# Altium footprint library PanelDriver.PcbLib: 27 footprints (part 2 of 2)
Each footprint in its own frame and in the unit in brackets; x right, y up, seen from the top. Pads: shape width x height; smd on the part's side, far side on the other; paste and mask are expansions set on the pad; w line width, h text height; cw(c..) or ccw(c..) is an arc to the next point about the centre after c.
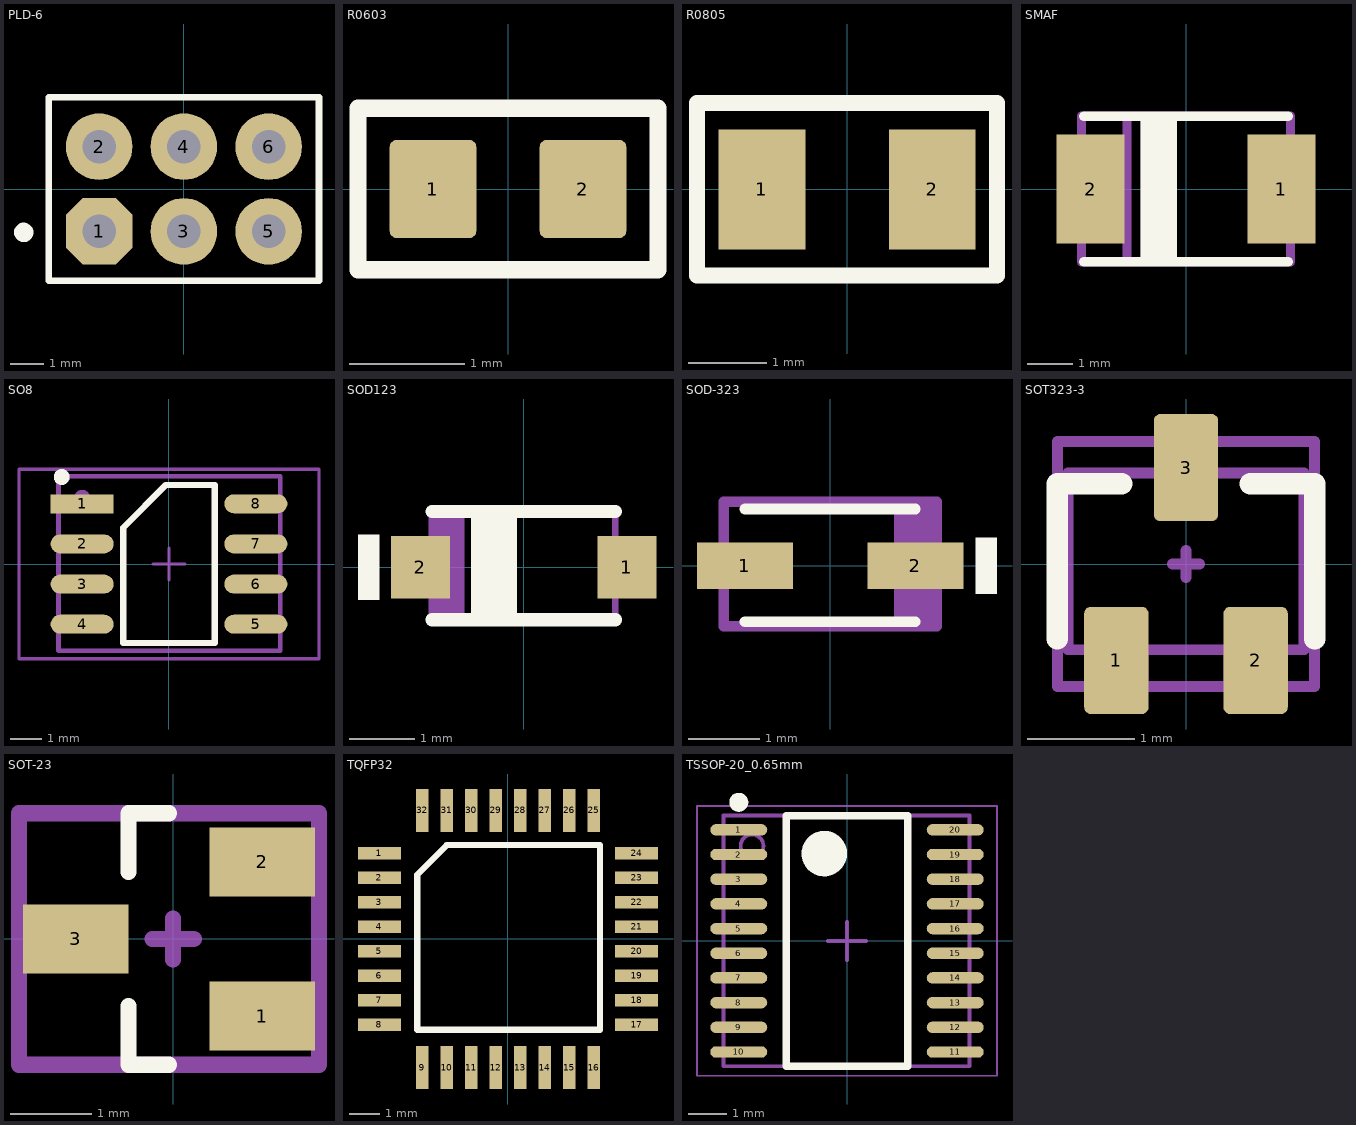
[diagram p1: the footprints below, top view; thin cyan lines are the x and y axes]

## PLD-6 [mm]
height 2.5
pads (6):
  oct 2x2 hole 1: 1(-2.54,-1.27)
  round 2 hole 1: 2(-2.54,1.27) 3(0,-1.27) 4(0,1.27) 5(2.54,-1.27) 6(2.54,1.27)
Top Overlay:
  circle w0.3: c-4.8,-1.3 r0.141
  lines w0.2: -4.05,-2.75 -4.05,2.75 4.05,2.75 4.05,-2.75 -4.05,-2.75
3D body: height 0.64, standoff 0, extent -3.785,1.905 -1.295,2.54
3D body: height 8.38, standoff 8.13, extent -2.667,1.333 -2.413,1.587
3D body: height 2.54, standoff 0.64, extent -3.785,0 -1.295,2.54
3D body: height 8.38, standoff 8.13, extent -2.667,1.143 -2.413,1.397
3D body: height 8.13, standoff -3.3, extent -2.857,0.953 -2.222,1.588
3D body: height 8.38, standoff 8.13, extent -2.857,1.143 -2.603,1.397
3D body: height 8.38, standoff 8.13, extent -2.476,1.143 -2.222,1.397
3D body: height 8.38, standoff 8.13, extent -2.667,0.953 -2.413,1.207
3D body: height 0.64, standoff 0, extent -3.785,0 -1.295,0.635
3D body: height 0.64, standoff 0, extent -3.785,-0.635 -1.295,0
3D body: height 8.38, standoff 8.13, extent -2.667,-1.207 -2.413,-0.953
3D body: height 2.54, standoff 0.64, extent -3.785,-2.54 -1.295,0
3D body: height 8.38, standoff 8.13, extent -2.667,-1.397 -2.413,-1.143
3D body: height 8.13, standoff -3.3, extent -2.857,-1.587 -2.222,-0.952
3D body: height 8.38, standoff 8.13, extent -2.857,-1.397 -2.603,-1.143
3D body: height 8.38, standoff 8.13, extent -2.476,-1.397 -2.222,-1.143
3D body: height 8.38, standoff 8.13, extent -2.667,-1.587 -2.413,-1.333
3D body: height 0.64, standoff 0, extent -3.785,-2.54 -1.295,-1.905
3D body: height 0.64, standoff 0, extent -1.245,1.905 1.245,2.54
3D body: height 8.38, standoff 8.13, extent -0.127,1.333 0.127,1.587
3D body: height 2.54, standoff 0.64, extent -1.245,0 1.245,2.54
3D body: height 8.38, standoff 8.13, extent -0.127,1.143 0.127,1.397
3D body: height 8.13, standoff -3.3, extent -0.318,0.953 0.318,1.588
3D body: height 8.38, standoff 8.13, extent -0.317,1.143 -0.063,1.397
3D body: height 8.38, standoff 8.13, extent 0.064,1.143 0.318,1.397
3D body: height 8.38, standoff 8.13, extent -0.127,0.953 0.127,1.207
3D body: height 0.64, standoff 0, extent -1.245,0 1.245,0.635
3D body: height 0.64, standoff 0, extent -1.245,-0.635 1.245,0
3D body: height 8.38, standoff 8.13, extent -0.127,-1.207 0.127,-0.953
3D body: height 2.54, standoff 0.64, extent -1.245,-2.54 1.245,0
3D body: height 8.38, standoff 8.13, extent -0.127,-1.397 0.127,-1.143
3D body: height 8.13, standoff -3.3, extent -0.318,-1.587 0.318,-0.952
3D body: height 8.38, standoff 8.13, extent -0.317,-1.397 -0.063,-1.143
3D body: height 8.38, standoff 8.13, extent 0.064,-1.397 0.318,-1.143
3D body: height 8.38, standoff 8.13, extent -0.127,-1.587 0.127,-1.333
3D body: height 0.64, standoff 0, extent -1.245,-2.54 1.245,-1.905
3D body: height 0.64, standoff 0, extent 1.295,1.905 3.785,2.54
3D body: height 8.38, standoff 8.13, extent 2.413,1.333 2.667,1.587
3D body: height 2.54, standoff 0.64, extent 1.295,0 3.785,2.54
3D body: height 8.38, standoff 8.13, extent 2.413,1.143 2.667,1.397
3D body: height 8.13, standoff -3.3, extent 2.222,0.953 2.857,1.588
3D body: height 8.38, standoff 8.13, extent 2.223,1.143 2.477,1.397
3D body: height 8.38, standoff 8.13, extent 2.604,1.143 2.858,1.397
3D body: height 8.38, standoff 8.13, extent 2.413,0.953 2.667,1.207
3D body: height 0.64, standoff 0, extent 1.295,0 3.785,0.635
3D body: height 0.64, standoff 0, extent 1.295,-0.635 3.785,0
3D body: height 8.38, standoff 8.13, extent 2.413,-1.207 2.667,-0.953
3D body: height 2.54, standoff 0.64, extent 1.295,-2.54 3.785,0
3D body: height 8.38, standoff 8.13, extent 2.413,-1.397 2.667,-1.143
3D body: height 8.13, standoff -3.3, extent 2.222,-1.587 2.857,-0.952
3D body: height 8.38, standoff 8.13, extent 2.223,-1.397 2.477,-1.143
3D body: height 8.38, standoff 8.13, extent 2.604,-1.397 2.858,-1.143
3D body: height 8.38, standoff 8.13, extent 2.413,-1.587 2.667,-1.333
3D body: height 0.64, standoff 0, extent 1.295,-2.54 3.785,-1.905

## R0603 [mm]
pads (2):
  rrect15% 0.75x0.85 smd: 1(-0.65,0) 2(0.65,0)
Top Overlay:
  lines w0.15: -1.3,-0.7 1.3,-0.7 1.3,0.7 -1.3,0.7 -1.3,-0.7
Top Assembly:
  lines w0.1: -1.3,-0.7 -1.3,0.7 1.3,0.7 1.3,-0.7 -1.3,-0.7
  text ".Designator" at -1.799,-0.181 h0.8
3D body "RESC1608X55N EIA 0603.step": height 0.55, standoff 0, extent -0.8,-0.4 0.8,0.4

## R0805 [mil]
height 98.43
pads (2):
  rect 43.31x60 smd mask+1.97: 1(-42.5,0) 2(42.5,0)
Top Overlay:
  lines w8: -74.8,-43 74.8,-43 74.8,43 -74.8,43 -74.8,-43
M4:
  lines w5.91: -74.8,-43 74.8,-43 74.8,43 -74.8,43 -74.8,-43
Top Assembly:
  text ".Designator" at -88.69,-8.92 h39.37
Bottom Assembly (Mech15):
  lines w4.72: -74.88,-42.64 -74.88,43.4 74.73,43.4 74.73,-42.64 -74.88,-42.64
3D body "RESC2012X50N EIA 0805.step": height 19.68, standoff 0, extent -39.37,-23.62 39.37,23.62

## SMAF [mm]
height 2.5
pads (2):
  rect 1.5x2.4 smd: 1(2.1,0) 2(-2.1,0)
Top Overlay:
  rectangle: -1,-1.5 -0.2,1.6
  lines w0.2: -2.25,-1.6 2.25,-1.6 ; -2.25,1.6 2.25,1.6
Top Assembly:
  lines w0.2: -1.3,-1.6 -1.3,1.6 ; -0.9,-1.6 -0.9,1.6 ; -2.3,-1.6 -2.3,1.6 2.3,1.6 2.3,-1.6 -2.3,-1.6
  text ".designator" at -0.1,-0.1 h0.75
3D body "User Library-DO-214AD.step": height 1, standoff 0, extent -2.35,-1.25 2.35,1.25

## SO8 [mm] "8-Pin Plastic Medium Body Small Outline Package 1.27 mm Pitch, IPC Medium Density"
height 2.04
pads (8):
  rect 2x0.6 smd: 1(-2.75,1.905)
  oval 2x0.6 smd: 2(-2.75,0.635) 3(-2.75,-0.635) 4(-2.75,-1.905) 5(2.75,-1.905) 6(2.75,-0.635) 7(2.75,0.635) 8(2.75,1.905)
Top Overlay:
  circle w0.25: c-3.4,2.755 r0.125
  lines w0.2: -1.45,-2.5 1.45,-2.5 1.45,2.5 -0.1,2.5 -1.45,1.15 -1.45,-2.5
Top Assembly:
  circle w0.3: c-2.75,2.1 r0.1
  lines w0.15: -3.5,-2.75 3.525,-2.75 3.525,2.775 -3.5,2.775 -3.5,-2.75
  text ".Designator" at -4.506,-0.453 h2
Bottom Assembly (Mech15):
  lines w0.1: -0.5,0 0.5,0 ; 0,-0.5 0,0.5 ; -4.75,-3 -4.75,3 4.75,3 4.75,-3 -4.75,-3
3D body "SOIC-8.step": height 1.75, standoff 0, extent -3,-2.45 3,2.45

## SOD123 [mm]
height 1.35
pads (2):
  rect 0.9x0.95 smd: 1(1.575,0) 2(-1.575,0)
Top Overlay:
  rectangle: -2.528,-0.5 -2.2,0.5
  rectangle: -0.8,-0.8 -0.1,0.85
  lines w0.2: -1.4,-0.8 1.4,-0.8 ; -1.4,0.85 1.4,0.85
Top Assembly:
  rectangle: -1.4,-0.8 -0.9,0.9
  lines w0.1: -1.4,-0.8 1.4,-0.8 1.4,0.9 -1.4,0.9 -1.4,-0.8
  text ".designator" at -2.178,-0.227 h1
3D body "SW3DPS-SOD123-DEFAULT.STEP": height 1.27, standoff 0, extent -1.85,-0.8 1.85,0.8

## SOD-323 [mm]
pads (2):
  rect 1.35x0.65 smd mask+0.051: 1(-1.2,0) 2(1.2,0)
Top Overlay:
  region: 2.35,0.4 2.05,0.4 2.05,-0.4 2.35,-0.4
  lines w0.15: -1.2,-0.789 1.2,-0.789 ; -1.2,0.8 1.2,0.8
Top Assembly:
  rectangle: 0.9,-0.85 1.5,0.9
  lines w0.15: -1.5,-0.85 -1.5,0.9 1.5,0.9 1.5,-0.85 -1.5,-0.85
  text ".Designator" at -2.253,-0.227 h1
3D body "User Library-SOD323F-1.step": height 1, standoff 0, extent -1.25,-0.675 1.25,0.675

## SOT323-3 [mm] "SMD, 2.2x2.2mm"
height 1.1
pads (3):
  rrect20% 0.6x1 smd: 1(-0.65,-0.9) 2(0.65,-0.9) 3(0,0.9)
Top Overlay:
  lines w0.2: -1.2,-0.7 -1.2,0.75 -0.6,0.75 ; 0.6,0.75 1.2,0.75 1.2,-0.7
Top Assembly:
  lines w0.102: -1.1,-0.65 -1.1,0.65 ; 1.1,-0.65 1.1,0.65 ; -1.1,-0.8 -0.9,-0.8 -0.9,-1.1 -0.4,-1.1 -0.4,-0.8 0.4,-0.8 0.4,-1.1 0.9,-1.1 0.9,-0.8 1.1,-0.8 1.1,0.85 0.25,0.85 0.25,1.1 -0.25,1.1 -0.25,0.85 -1.1,0.85 -1.1,-0.8
  text ".designator" at 0.227,-2.178 h1
Bottom Assembly (Mech15):
  lines w0.1: -1.2,-1.143 -1.2,1.143 1.2,1.143 1.2,-1.143 -1.2,-1.143
  lines w0.102: -0.127,0 0.127,0 ; 0,-0.127 0,0.127
3D body "User Library-SOT323 (SC70-3)-1.STEP": height 1.1, standoff 0, extent -1.1,-1.122 1.1,1.123

## SOT-23 [mm] "SOT23, 3-Leads, Body 3,1x2,5mm (max), Pitch 0,95mm, IPC Medium Density"
height 1.1
pads (3):
  rect 1.3x0.85 smd: 1(1.1,-0.95) 2(1.1,0.95) 3(-1.2,0)
Top Overlay:
  lines w0.2: -0.55,-0.825 -0.55,-1.55 -0.05,-1.55 ; -0.55,0.825 -0.55,1.55 -0.05,1.55
Top Assembly:
  lines w0.2: -1.9,-1.55 -1.9,1.55 1.8,1.55 1.8,-1.55 -1.9,-1.55
  text ".Designator" at -3.434,-0.345 h1.52
Bottom Assembly (Mech15):
  lines w0.2: -0.254,0 0.254,0 ; 0,-0.254 0,0.254
3D body "SOT23.STEP": height 1, standoff -0.02, extent -1.206,-1.46 1.27,1.46

## TQFP32 [mm]
height 1.6
pads (32):
  rect 1.4x0.4 smd mask+0.1: 1(-4.2,2.8) 2(-4.2,2) 3(-4.2,1.2) 4(-4.2,0.4) 5(-4.2,-0.4) 6(-4.2,-1.2) 7(-4.2,-2) 8(-4.2,-2.8) 17(4.2,-2.8) 18(4.2,-2) 19(4.2,-1.2) 20(4.2,-0.4) 21(4.2,0.4) 22(4.2,1.2) 23(4.2,2) 24(4.2,2.8)
  rect 0.4x1.4 smd mask+0.1: 9(-2.8,-4.2) 10(-2,-4.2) 11(-1.2,-4.2) 12(-0.4,-4.2) 13(0.4,-4.2) 14(1.2,-4.2) 15(2,-4.2) 16(2.8,-4.2) 25(2.8,4.2) 26(2,4.2) 27(1.2,4.2) 28(0.4,4.2) 29(-0.4,4.2) 30(-1.2,4.2) 31(-2,4.2) 32(-2.8,4.2)
Top Overlay:
  lines w0.2: -2.965,-2.965 3,-2.965 3,3.065 -2,3.065 -2.965,2.1 -2.965,-2.965
3D body "User Library-TQFP32-2.step": height 1, standoff 0, extent -4.5,-4.5 4.5,4.5

## TSSOP-20_0.65mm [mm] "TSOP, 20-Leads, Body 6.5x4.4mm, Pitch 0.65mm, IPC Medium Density"
height 1.1
pads (20):
  oval 1.5x0.3 smd mask+0.1: 1(-2.85,2.925) 2(-2.85,2.275) 3(-2.85,1.625) 4(-2.85,0.975) 5(-2.85,0.325) 6(-2.85,-0.325) 7(-2.85,-0.975) 8(-2.85,-1.625) 9(-2.85,-2.275) 10(-2.85,-2.925) 11(2.85,-2.925) 12(2.85,-2.275) 13(2.85,-1.625) 14(2.85,-0.975) 15(2.85,-0.325) 16(2.85,0.325) 17(2.85,0.975) 18(2.85,1.625) 19(2.85,2.275) 20(2.85,2.925)
Top Overlay:
  circle w0.25: c-2.85,3.65 r0.125
  circle w0.6: c-0.6,2.3 r0.3
  lines w0.2: -1.6,-3.3 -1.6,3.3 1.6,3.3 1.6,-3.3 -1.6,-3.3
Top Assembly:
  circle w0.1: c-2.5,2.5 r0.3
  lines w0.1: -3.25,-3.3 -3.25,3.3 3.225,3.3 3.225,-3.3 -3.25,-3.3
  text ".designator" at -5.445,-0.567 h2.5
Bottom Assembly (Mech15):
  lines w0.05: -3.95,-3.55 -3.95,3.55 3.95,3.55 3.95,-3.55 -3.95,-3.55
  lines w0.1: -0.5,0 0.5,0 ; 0,-0.5 0,0.5
3D body "User Library-TSSOP-20-2.STEP": height 1.2, standoff 0, extent -3.2,-3.25 3.2,3.25